# EAGLE library part AD7490 (library newchips)
Analog Devices 16-Channel, 1 MSPS, 12-Bit ADC with Sequencer
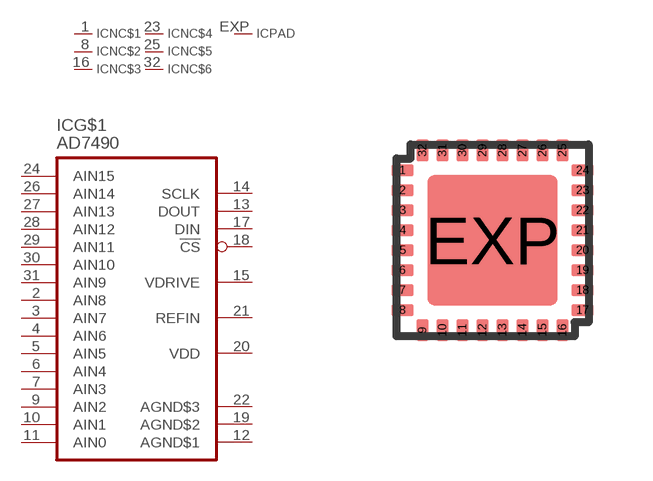
[diagram p11: symbol with the pads of LFCSP32; footprint LFCSP32]

Designator prefix IC; gates G$1=AD7490 NC$1=NC NC$2=NC NC$3=NC NC$4=NC NC$5=NC NC$6=NC PAD=NC

## AD7490LFCSP  [LFCSP32]
1  NC$1:NC  nc
2  G$1:AIN8  in
3  G$1:AIN7  in
4  G$1:AIN6  in
5  G$1:AIN5  in
6  G$1:AIN4  in
7  G$1:AIN3  in
8  NC$2:NC  nc
9  G$1:AIN2  in
10  G$1:AIN1  in
11  G$1:AIN0  in
12  G$1:AGND$1  pwr
13  G$1:DOUT  out
14  G$1:SCLK  in
15  G$1:VDRIVE  in
16  NC$3:NC  nc
17  G$1:DIN  in
18  G$1:!CS  in
19  G$1:AGND$2  pwr
20  G$1:VDD  pwr
21  G$1:REFIN  in
22  G$1:AGND$3  pwr
23  NC$4:NC  nc
24  G$1:AIN15  in
25  NC$5:NC  nc
26  G$1:AIN14  in
27  G$1:AIN13  in
28  G$1:AIN12  in
29  G$1:AIN11  in
30  G$1:AIN10  in
31  G$1:AIN9  in
32  NC$6:NC  nc
EXP  PAD:NC  nc

## Footprint LFCSP32 (pad centres in mm)
32-Lead Frame Chip Scale Package [LFCSP_VQ] 5 mm × 5 mm Very Thin Quad (CP-32-3 COMPLIANT TO JEDEC STANDARDS MO-220-VHHD-2 Source: http://www.analog.com/UploadedFiles/Data_Sheets/762180021AD7142_42_1_prd.pdf
smd 0.55 x 0.3: 1 -2.25,1.75; 2 -2.25,1.25; 3 -2.25,0.75; 4 -2.25,0.25; 5 -2.25,-0.25; 6 -2.25,-0.75; 7 -2.25,-1.25; 8 -2.25,-1.75; 17 2.25,-1.75; 18 2.25,-1.25; 19 2.25,-0.75; 20 2.25,-0.25; 21 2.25,0.25; 22 2.25,0.75; 23 2.25,1.25; 24 2.25,1.75
smd 0.3 x 0.55: 9 -1.75,-2.25; 10 -1.25,-2.25; 11 -0.75,-2.25; 12 -0.25,-2.25; 13 0.25,-2.25; 14 0.75,-2.25; 15 1.25,-2.25; 16 1.75,-2.25; 25 1.75,2.25; 26 1.25,2.25; 27 0.75,2.25; 28 0.25,2.25; 29 -0.25,2.25; 30 -0.75,2.25; 31 -1.25,2.25; 32 -1.75,2.25
smd 3.25 x 3.25: EXP 0,0